# EAGLE library part FC-60-CART-PIN (library FC LIBR)
FAMICOM Cart Connector - W/NROM
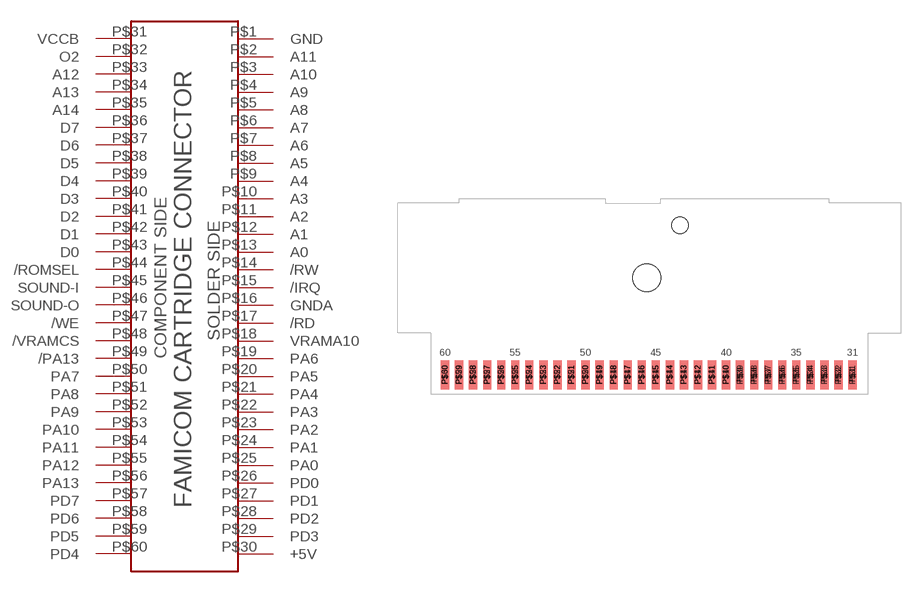
[diagram p0: symbol with the pads of FC-60-PIN-CART; footprint FC-60-PIN-CART]

Designator prefix -

## FC-60-CART-PIN  [FC-60-PIN-CART]
P$1  GND  pwr
P$2  A11
P$3  A10
P$4  A9
P$5  A8
P$6  A7
P$7  A6
P$8  A5
P$9  A4
P$10  A3
P$11  A2
P$12  A1
P$13  A0
P$14  /RW
P$15  /IRQ
P$16  GNDA  pwr
P$17  /RD
P$18  VRAMA10
P$19  PA6
P$20  PA5
P$21  PA4
P$22  PA3
P$23  PA2
P$24  PA1
P$25  PA0
P$26  PD0
P$27  PD1
P$28  PD2
P$29  PD3
P$30  +5V  pwr
P$31  VCCB  pwr
P$32  O2
P$33  A12
P$34  A13
P$35  A14
P$36  D7
P$37  D6
P$38  D5
P$39  D4
P$40  D3
P$41  D2
P$42  D1
P$43  D0
P$44  /ROMSEL
P$45  SOUND-I
P$46  SOUND-O
P$47  /WE
P$48  /VRAMCS
P$49  /PA13
P$50  PA7
P$51  PA8
P$52  PA9
P$53  PA10
P$54  PA11
P$55  PA12
P$56  PA13
P$57  PD7
P$58  PD6
P$59  PD5
P$60  PD4

## Footprint FC-60-PIN-CART (pad centres in mm)
smd 1.5 x 5.25 bottom: P$1 76.2,3.429; P$2 73.66,3.429; P$3 71.12,3.429; P$4 68.58,3.429; P$5 66.04,3.429; P$6 63.5,3.429; P$7 60.96,3.429; P$8 58.42,3.429; P$9 55.88,3.429; P$10 53.34,3.429; P$11 50.8,3.429; P$12 48.26,3.429; P$13 45.72,3.429; P$14 43.18,3.429; P$15 40.64,3.429; P$16 38.1,3.429; P$17 35.56,3.429; P$18 33.02,3.429; P$19 30.48,3.429; P$20 27.94,3.429; P$21 25.4,3.429; P$22 22.86,3.429; P$23 20.32,3.429; P$24 17.78,3.429; P$25 15.24,3.429; P$26 12.7,3.429; P$27 10.16,3.429; P$28 7.62,3.429; P$29 5.08,3.429; P$30 2.54,3.429
smd 1.5 x 5.25: P$31 76.2,3.429; P$32 73.66,3.429; P$33 71.12,3.429; P$34 68.58,3.429; P$35 66.04,3.429; P$36 63.5,3.429; P$37 60.96,3.429; P$38 58.42,3.429; P$39 55.88,3.429; P$40 53.34,3.429; P$41 50.8,3.429; P$42 48.26,3.429; P$43 45.72,3.429; P$44 43.18,3.429; P$45 40.64,3.429; P$46 38.1,3.429; P$47 35.56,3.429; P$48 33.02,3.429; P$49 30.48,3.429; P$50 27.94,3.429; P$51 25.4,3.429; P$52 22.86,3.429; P$53 20.32,3.429; P$54 17.78,3.429; P$55 15.24,3.429; P$56 12.7,3.429; P$57 10.16,3.429; P$58 7.62,3.429; P$59 5.08,3.429; P$60 2.54,3.429
hole 3 at 45,30.5
hole 5 at 39,21